# Altium footprint library RayPCB20210502.PcbLib: 231 footprints (part 11 of 15)
Each footprint in its own frame and in the unit in brackets; x right, y up, seen from the top. Pads: shape width x height; smd on the part's side, far side on the other; paste and mask are expansions set on the pad; w line width, h text height; cw(c..) or ccw(c..) is an arc to the next point about the centre after c.
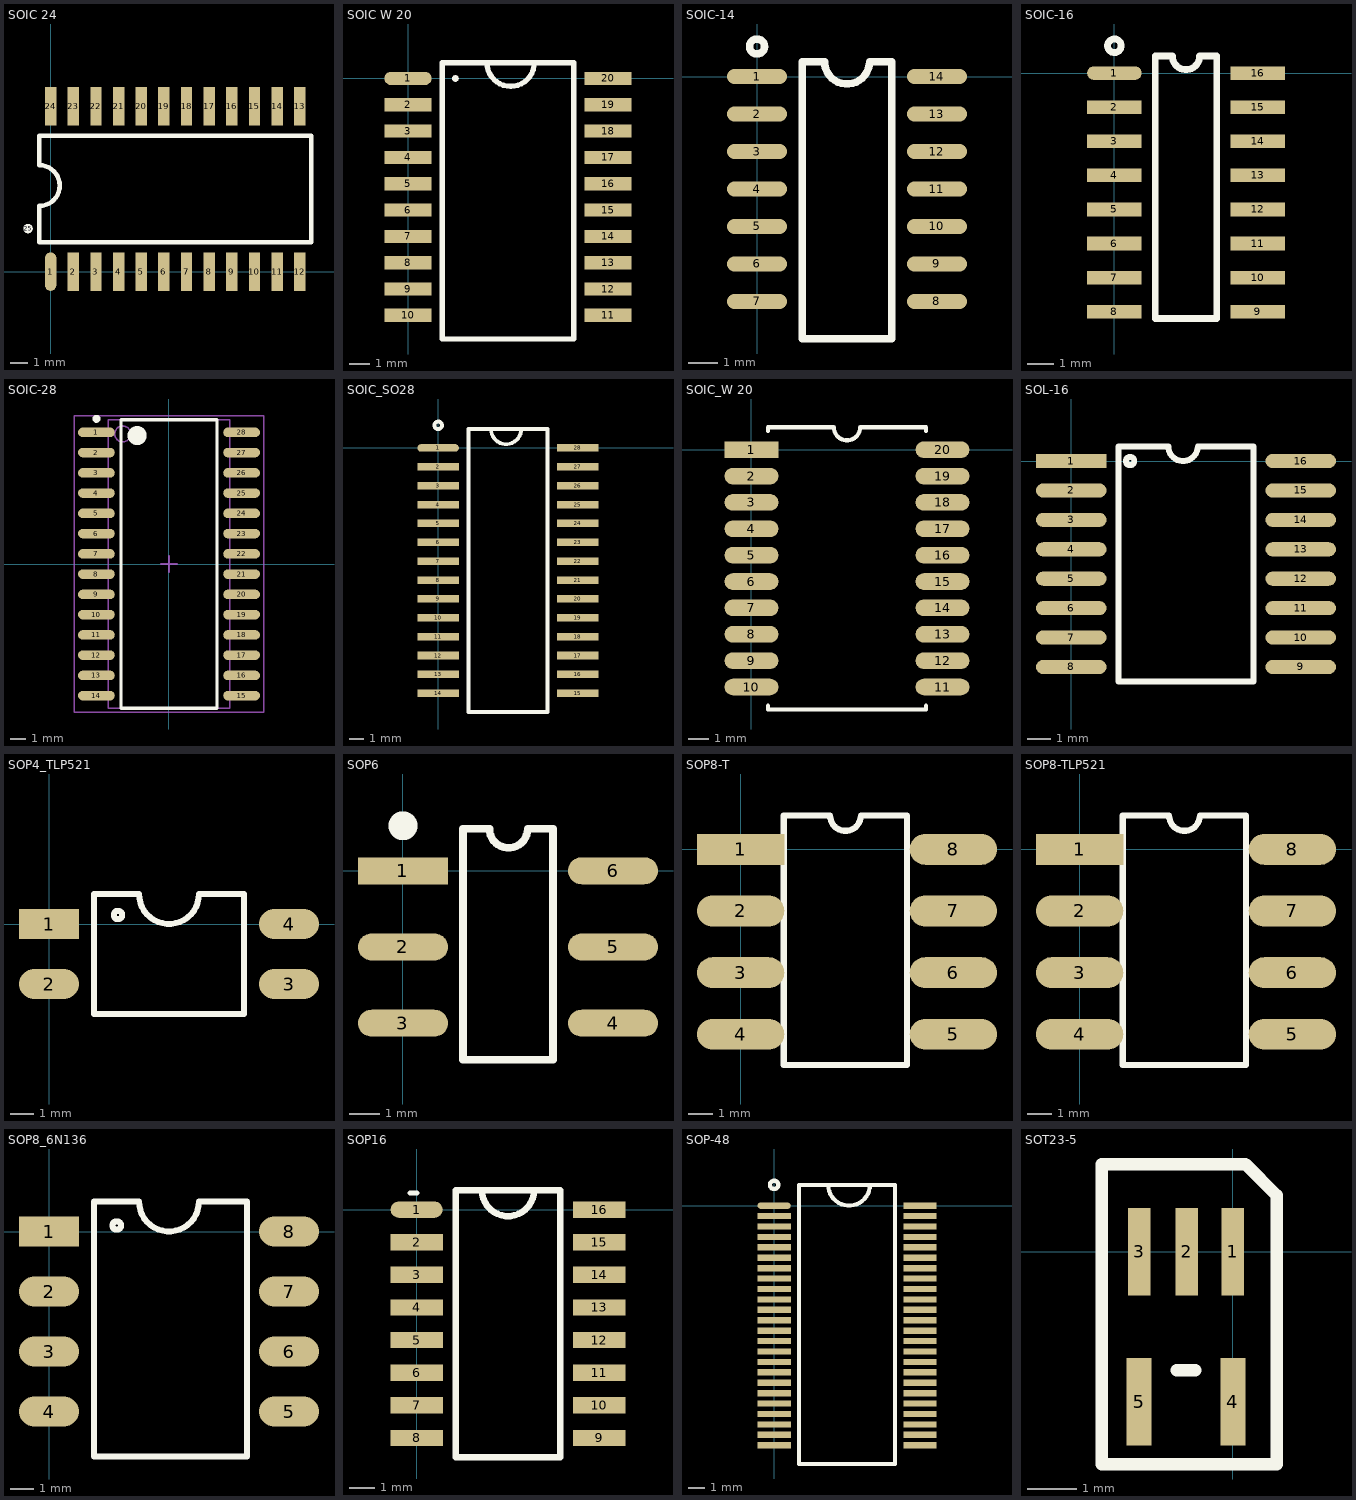
[diagram p10: the footprints below, top view; thin cyan lines are the x and y axes]

## SOIC 24 [mil]
pads (25):
  oval 25x85 smd: 1(0,0)
  rect 25x85 smd: 2(50,0) 3(100,0) 4(150,0) 5(200,0) 6(250,0) 7(300,0) 8(350,0) 9(400,0) 10(450,0) 11(500,0) 12(550,0) 13(550,365) 14(500,365) 15(450,365) 16(400,365) 17(350,365) 18(300,365) 19(250,365) 20(200,365) 21(150,365) 22(100,365) 23(50,365) 24(0,365)
  round 21 on Top Overlay: 25(-50,95)
Top Overlay:
  lines w10: -25,65 575,65 575,300 -25,300 -25,235 cw(c-25,190) -25,145 -25,65

## SOIC W 20 [mil]
pads (21):
  oval 90x25 smd: 1(0,0)
  rect 90x25 smd: 2(0,-50) 3(0,-100) 4(0,-150) 5(0,-200) 6(0,-250) 7(0,-300) 8(0,-350) 9(0,-400) 10(0,-450) 11(380,-450) 12(380,-400) 13(380,-350) 14(380,-300) 15(380,-250) 16(380,-200) 17(380,-150) 18(380,-100) 19(380,-50) 20(380,0)
  round 13 on Top Overlay: 21(90,0)
Top Overlay:
  lines w10: 150,30 ccw(c195,30) 240,30 ; 65,-495 315,-495 315,30 65,30 65,-495

## SOIC-14 [mil] "74HCXXX"
pads (14):
  oval 80x20 smd: 1(0,0) 2(0,-50) 3(0,-100) 4(0,-150) 5(0,-200) 6(0,-250) 7(0,-300) 8(240,-300) 9(240,-250) 10(240,-200) 11(240,-150) 12(240,-100) 13(240,-50) 14(240,0)
Top Overlay:
  circle w10: c0,40 r10
  lines w10: 60,-350 180,-350 180,20 150,20 cw(c120,20) 90,20 60,20 60,-350

## SOIC-16 [mil]
pads (16):
  oval 80x20 smd: 1(0,0)
  rect 80x20 smd: 2(0,-50) 3(0,-100) 4(0,-150) 5(0,-200) 6(0,-250) 7(0,-300) 8(0,-350) 9(210,-350) 10(210,-300) 11(210,-250) 12(210,-200) 13(210,-150) 14(210,-100) 15(210,-50) 16(210,0)
Top Overlay:
  circle w10: c0,40 r10
  lines w10: 60,-360 150,-360 150,25 125,25 cw(c105,25) 85,25 60,25 60,-360

## SOIC-28 [mm] "PIC18F25K22-I/SO"
pads (28):
  oval 2.3x0.6 smd: 1(-4.55,8.255) 2(-4.55,6.985) 3(-4.55,5.715) 4(-4.55,4.445) 5(-4.55,3.175) 6(-4.55,1.905) 7(-4.55,0.635) 8(-4.55,-0.635) 9(-4.55,-1.905) 10(-4.55,-3.175) 11(-4.55,-4.445) 12(-4.55,-5.715) 13(-4.55,-6.985) 14(-4.55,-8.255) 15(4.55,-8.255) 16(4.55,-6.985) 17(4.55,-5.715) 18(4.55,-4.445) 19(4.55,-3.175) 20(4.55,-1.905) 21(4.55,-0.635) 22(4.55,0.635) 23(4.55,1.905) 24(4.55,3.175) 25(4.55,4.445) 26(4.55,5.715) 27(4.55,6.985) 28(4.55,8.255)
Top Overlay:
  circle w0.25: c-4.55,9.105 r0.125
  circle w0.6: c-2,8.05 r0.3
  lines w0.2: -3,-9.05 -3,9.05 3,9.05 3,-9.05 -3,-9.05
Mechanical 13:
  circle w0.1: c-2.9,8.155 r0.5
  lines w0.1: -3.8,-9.055 -3.8,9.055 3.8,9.055 3.8,-9.055 -3.8,-9.055
Mechanical 15:
  lines w0.1: -0.5,0 0.5,0 ; 0,-0.5 0,0.5 ; -5.95,-9.3 -5.95,9.3 5.95,9.3 5.95,-9.3 -5.95,-9.3
3D body: height 2.65, standoff 0, extent -3.8,-9.055 3.8,9.055

## SOIC_SO28 [mil] "PIC18F26K22"
pads (28):
  oval 110x20 smd: 1(0,0)
  rect 110x20 smd: 2(0,-50) 3(0,-100) 4(0,-150) 5(0,-200) 6(0,-250) 7(0,-300) 8(0,-350) 9(0,-400) 10(0,-450) 11(0,-500) 12(0,-550) 13(0,-600) 14(0,-650) 15(370,-650) 16(370,-600) 17(370,-550) 18(370,-500) 19(370,-450) 20(370,-400) 21(370,-350) 22(370,-300) 23(370,-250) 24(370,-200) 25(370,-150) 26(370,-100) 27(370,-50) 28(370,0)
Top Overlay:
  circle w10: c0,60 r10
  lines w10: 140,50 ccw(c180,50) 220,50 ; 80,-700 80,50 290,50 290,-700 80,-700

## SOIC_W 20 [mm] "DRV8803DW"
pads (20):
  rect 2.6x0.8 smd: 1(0,0)
  oval 2.6x0.8 smd: 2(0,-1.27) 3(0,-2.54) 4(0,-3.81) 5(0,-5.08) 6(0,-6.35) 7(0,-7.62) 8(0,-8.89) 9(0,-10.16) 10(0,-11.43) 11(9.2,-11.43) 12(9.2,-10.16) 13(9.2,-8.89) 14(9.2,-7.62) 15(9.2,-6.35) 16(9.2,-5.08) 17(9.2,-3.81) 18(9.2,-2.54) 19(9.2,-1.27) 20(9.2,0)
Top Overlay:
  lines w0.2: 0.8,-12.33 0.8,-12.515 8.4,-12.515 8.4,-12.33 ; 0.8,0.9 0.8,1.085 3.965,1.085 ccw(c4.6,1.085) 5.235,1.085 8.4,1.085 8.4,0.9

## SOL-16 [mil] "ADUM1300"
pads (16):
  rect 120x24 smd: 1(0,0)
  oval 120x24 smd: 2(0,-50) 3(0,-100) 4(0,-150) 5(0,-200) 6(0,-250) 7(0,-300) 8(0,-350) 9(390,-350) 10(390,-300) 11(390,-250) 12(390,-200) 13(390,-150) 14(390,-100) 15(390,-50) 16(390,0)
Top Overlay:
  circle w10: c100,0 r7.07
  lines w10: 80,-375 80,25 165,25 ccw(c190,25) 215,25 310,25 310,-375 80,-375

## SOP4_TLP521 [mil]
pads (4):
  rect 100x50 smd: 1(0,0)
  oval 100x50 smd: 2(0,-100) 3(400,-100) 4(400,0)
Top Overlay:
  circle w10: c115,15 r7.07
  lines w10: 75,-150 325,-150 325,50 250,50 cw(c200,50) 150,50 75,50 75,-150

## SOP6 [mm]
pads (6):
  rect 3x0.9 smd: 1(0,0)
  oval 3x0.9 smd: 2(0,-2.54) 3(0,-5.08) 4(7,-5.08) 5(7,-2.54) 6(7,0)
Top Overlay:
  circle w0.762: c0,1.5 r0.1
  lines w0.254: 2,-6.3 2,1.397 2.883,1.397 ccw(c3.518,1.397) 4.153,1.397 5,1.397 5,-6.3 2,-6.3

## SOP8-T [mm] "6N136"
pads (8):
  rect 3.6x1.27 smd: 1(0,0)
  oval 3.6x1.27 smd: 2(0,-2.54) 3(0,-5.08) 4(0,-7.62) 5(8.763,-7.62) 6(8.763,-5.08) 7(8.763,-2.54) 8(8.763,0)
Top Overlay:
  lines w0.254: 1.778,-8.89 1.778,1.397 3.683,1.397 ccw(c4.318,1.397) 4.953,1.397 6.858,1.397 6.858,-8.89 1.778,-8.89

## SOP8-TLP521 [mm] "TLP521-4"
pads (8):
  rect 3.6x1.27 smd: 1(0,0)
  oval 3.6x1.27 smd: 2(0,-2.54) 3(0,-5.08) 4(0,-7.62) 5(8.763,-7.62) 6(8.763,-5.08) 7(8.763,-2.54) 8(8.763,0)
Top Overlay:
  lines w0.254: 1.778,-8.89 1.778,1.397 3.683,1.397 ccw(c4.318,1.397) 4.953,1.397 6.858,1.397 6.858,-8.89 1.778,-8.89

## SOP8_6N136 [mil]
pads (8):
  rect 100x50 smd: 1(0,0)
  oval 100x50 smd: 2(0,-100) 3(0,-200) 4(0,-300) 5(400,-300) 6(400,-200) 7(400,-100) 8(400,0)
Top Overlay:
  circle w10: c112.93,10 r7.07
  lines w10: 75,-375 75,50 150,50 ccw(c200,50) 250,50 330,50 330,-375 75,-375

## SOP16 [mil]
pads (16):
  oval 80x25 smd: 1(0,0)
  rect 80x25 smd: 2(0,-50) 3(0,-100) 4(0,-150) 5(0,-200) 6(0,-250) 7(0,-300) 8(0,-350) 9(280,-350) 10(280,-300) 11(280,-250) 12(280,-200) 13(280,-150) 14(280,-100) 15(280,-50) 16(280,0)
Top Overlay:
  lines w8: -10.24,25.59 0,25.59
  lines w10: 100,30 ccw(c140,30) 180,30 ; 60,-380 60,30 220,30 220,-380 60,-380

## SOP-48 [mil]
pads (48):
  oval 80x15 smd: 1(0,0)
  rect 80x15 smd: 2(0,-25) 3(0,-50) 4(0,-75) 5(0,-100) 6(0,-125) 7(0,-150) 8(0,-175) 9(0,-200) 10(0,-225) 11(0,-250) 12(0,-275) 13(0,-300) 14(0,-325) 15(0,-350) 16(0,-375) 17(0,-400) 18(0,-425) 19(0,-450) 20(0,-475) 21(0,-500) 22(0,-525) 23(0,-550) 24(0,-575) 25(350,-575) 26(350,-550) 27(350,-525) 28(350,-500) 29(350,-475) 30(350,-450) 31(350,-425) 32(350,-400) 33(350,-375) 34(350,-350) 35(350,-325) 36(350,-300) 37(350,-275) 38(350,-250) 39(350,-225) 40(350,-200) 41(350,-175) 42(350,-150) 43(350,-125) 44(350,-100) 45(350,-75) 46(350,-50) 47(350,-25) 48(350,0)
Top Overlay:
  circle w10: c0,50 r10
  lines w10: 130,50 ccw(c180,50) 230,50 ; 60,-620 290,-620 290,50 60,50 60,-620

## SOT23-5 [mil]
pads (5):
  rect 18x70 smd: 1(0,0) 2(-37,0) 3(-75,0)
  rect 20x70 smd: 4(0,-120) 5(-75,-120)
Top Overlay:
  lines w10: -45,-95 -30,-95 ; -105,-170 35,-170 35,-150 35,45 10,70 -105,70 -105,25 -105,-170